# Altium footprint library AUVic_Integrated_Library_Inductors.PcbLib: 8 footprints
Each footprint in its own frame and in the unit in brackets; x right, y up, seen from the top. Pads: shape width x height; smd on the part's side, far side on the other; paste and mask are expansions set on the pad; w line width, h text height; cw(c..) or ccw(c..) is an arc to the next point about the centre after c.
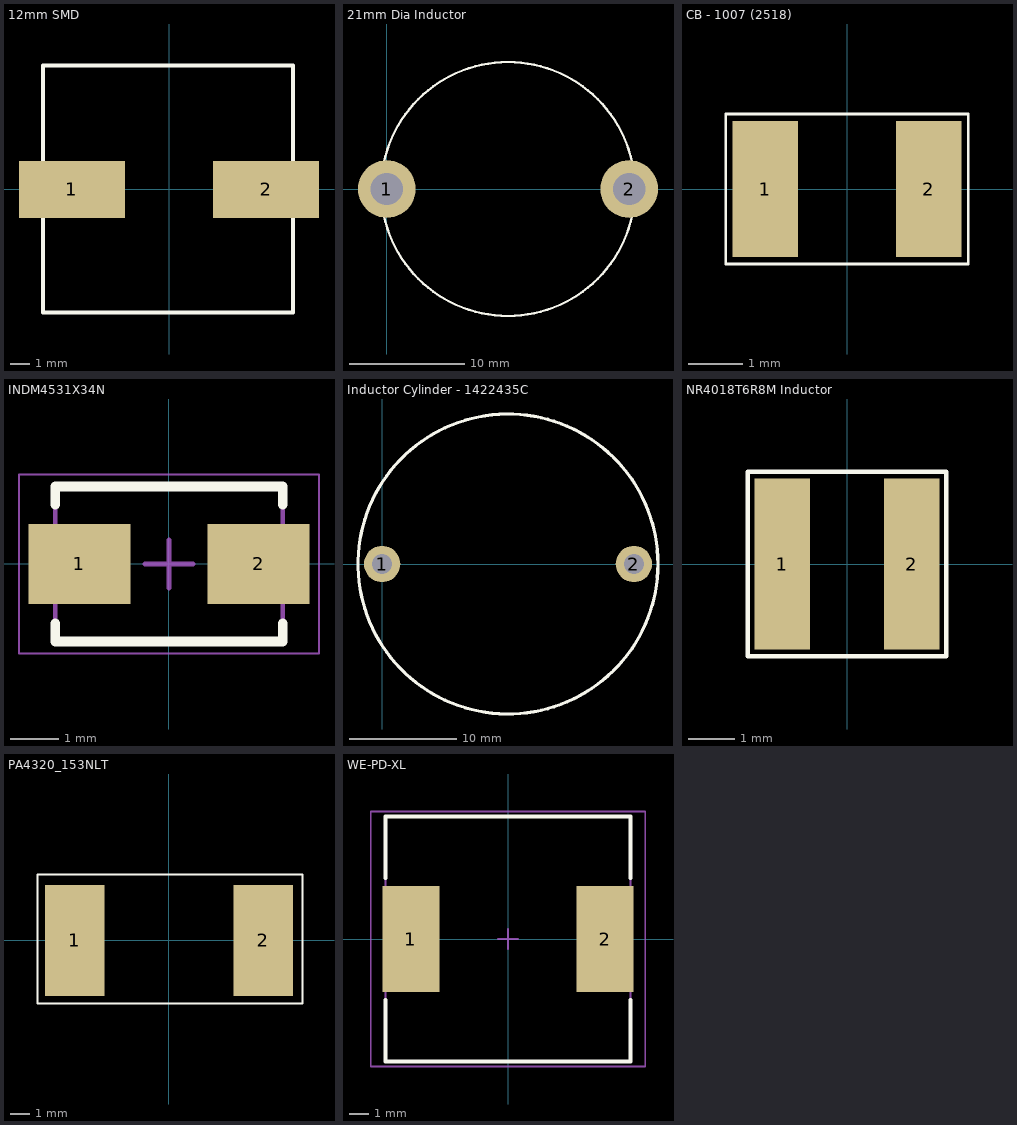
[diagram p0: the footprints below, top view; thin cyan lines are the x and y axes]

## 12mm SMD [mm]
pads (2):
  rect 5.4x2.9 smd: 1(-4.95,0) 2(4.95,0)
Top Overlay:
  lines w0.2: -6.425,-6.275 -6.425,2.275 -6.425,6.325 6.325,6.325 6.325,-6.275 -6.425,-6.275
3D body "731-1246-1-ND.stp": height 10.13, standoff -0.25, extent -6,-6 6,6
3D body: height 1.27, standoff 0, extent -3.6,-3.475 -3.6,-3.475

## 21mm Dia Inductor [mm]
height 21
pads (2):
  round 5 hole 2.8: 1(0,0) 2(21,0)
Top Overlay:
  circle w0.2: c10.5,0 r11
3D body "AIRD-02.STEP": height 21, standoff -12.5, extent -0.8,-10.5 21.8,10.5

## CB - 1007 (2518) [mm]
pads (2):
  rect 1.2x2.5 smd: 1(-1.5,0) 2(1.5,0)
Top Overlay:
  lines w0.05: -2.225,-1.375 2.225,-1.375 2.225,1.375 -2.225,1.375 -2.225,-1.375

## INDM4531X34N [mm] "Molded Inductor, 2-Leads, Body 4.50x3.10mm, IPC Medium Density"
height 3.4
pads (2):
  rect 2.1x1.65 smd: 1(-1.85,0) 2(1.85,0)
Top Overlay:
  lines w0.2: -2.35,-1.225 -2.35,-1.6 2.35,-1.6 2.35,-1.225 ; -2.35,1.225 -2.35,1.6 2.35,1.6 2.35,1.225
Mechanical 13:
  lines w0.1: -2.35,-1.6 -2.35,1.6 2.35,1.6 2.35,-1.6 -2.35,-1.6
Mechanical 15:
  lines w0.05: -3.1,-1.85 -3.1,1.85 3.1,1.85 3.1,-1.85 -3.1,-1.85
  lines w0.1: -0.5,0 0.5,0 ; 0,-0.5 0,0.5
3D body: height 3.4, standoff 0, extent -2.35,-1.6 2.35,1.6

## Inductor Cylinder - 1422435C [mm]
height 14
pads (2):
  round 3.4 hole 1.85: 1(0,0) 2(23.5,0)
Top Overlay:
  circle w0.3: c11.75,0 r14
3D body: height 14, standoff 0, extent -1.25,-12.996 24.75,12.996
3D body: height 0.25, standoff 0, extent 19.6,3.55 19.6,3.55
3D body: height 0.25, standoff 0, extent 7.9,5.075 7.9,5.075

## NR4018T6R8M Inductor [mm]
pads (2):
  rect 1.2x3.7 smd: 1(-1.4,0) 2(1.4,0)
Top Overlay:
  lines w0.1: -2.15,-2 -2.15,0 -2.15,2 2.15,2 2.15,-2 -2.15,-2

## PA4320_153NLT [mm]
pads (2):
  rect 3x5.6 smd: 1(-4.75,0) 2(4.75,0)
Top Overlay:
  lines w0.1: -6.625,-3.175 6.725,-3.175 6.725,3.325 -6.625,3.325 -6.625,2.175 -6.625,-3.175

## WE-PD-XL [mm] "SMD Inductor, 2-Leads, Body 12.0 x 12.0 mm"
height 8
pads (2):
  rect 2.9x5.4 smd: 1(-4.95,0) 2(4.95,0)
Top Overlay:
  lines w0.2: -6.25,-3.1 -6.25,-6.25 6.25,-6.25 6.25,-3.1 ; -6.25,3.1 -6.25,6.25 6.25,6.25 6.25,3.1
Mechanical 13:
  lines w0.1: -6.25,-6.25 6.25,-6.25 6.25,6.25 -6.25,6.25 -6.25,-6.25
Mechanical 15:
  lines w0.1: -0.5,0 0.5,0 ; 0,-0.5 0,0.5 ; -7,-6.5 7,-6.5 7,6.5 -7,6.5 -7,-6.5
3D body "744770268.stp": height 7.99, standoff -0.01, extent -6,-6 6,6